# Altium schematic symbol library Resistors.SchLib: 123 symbols (part 1 of 2)
Pins are listed as number, name and electrical type; pins without a type are passive.

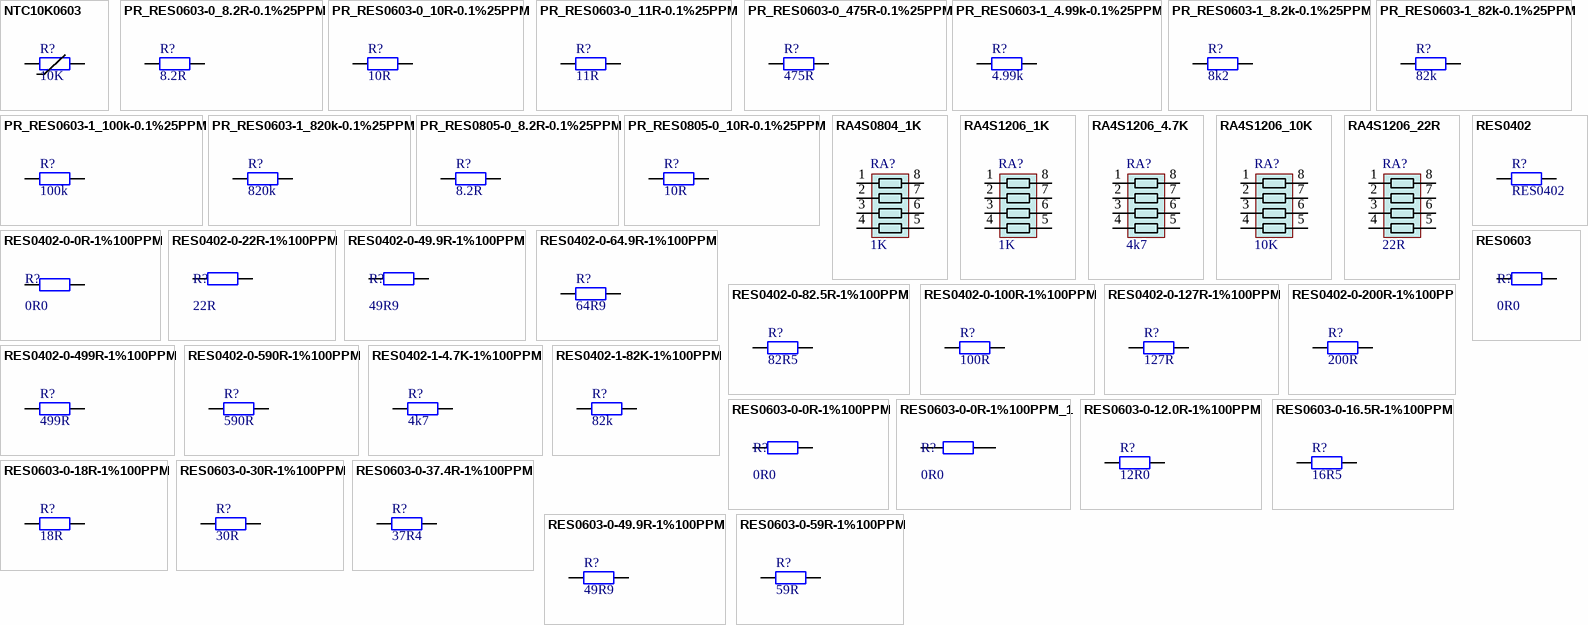
[diagram p0: symbols NTC10K0603 to RES0603-0-59R-1%100PPM]

## NTC10K0603
designator R?, comment 10K
NTC Resistor SMD 0603 0.1W 2% -40..+125degC; Manufacturer: Epcos; Manufacturer No: B57321V2103J60; Tech: SMDR; Package: Res Chip 0603; Supplier 1: Digi-Key; Supplier Part Number 1: 495-2104-1-ND; Supplier 2: Newark; Supplier Part Number 2: 43J3504; Supplier 3: Mouser; Supplier Part Number 3: 871-B57321V2103J60
simulation model RESISTOR (Resistor)
signal-integrity model Res
footprint NTC0603-1 (NTC resistor 0603 0.9mm high)
pins: 1, 2

## PR_RES0603-0_8.2R-0.1%25PPM
designator R?, comment 8.2R
Chip Resistor 0603 100mW 0.1% 25ppm; Manufacturer: TE Connectivity; Manufacturer No: 8-1614882-9; Tech: SMDR; Package: Res Chip 0603; Supplier 1: Mouser; Supplier Part Number 1: 279-CPF0603B8R2E1; Supplier 2: Digi-Key; Supplier Part Number 2: A103135CT-ND
simulation model RESISTOR (Resistor)
signal-integrity model Res
footprint RC0603N1R (Chip resistor 0603 ROUNDED PAD)
footprint RC0603N1X (Chip resistor 0603)
footprint RC0603RF1 (Chip resistor 0603 RF pad)
footprint RC0603RF1R (Chip resistor 0603 RF pad ROUNDED PAD)
pins: 1, 2
1 alternate drawing of the same symbol

## PR_RES0603-0_10R-0.1%25PPM
designator R?, comment 10R
Chip Resistor 0603 100mW 0.1% 25ppm; Manufacturer: Vishay; Manufacturer No: TNPW060310R0BEEA; Tech: SMDR; Package: Res Chip 0603; Supplier 1: Mouser; Supplier Part Number 1: 71-TNPW060310R0BEEA; Supplier 2: Digi-Key; Supplier Part Number 2: TNP10.0AACT-ND
simulation model RESISTOR (Resistor)
signal-integrity model Res
footprint RC0603N1R (Chip resistor 0603 ROUNDED PAD)
footprint RC0603N1X (Chip resistor 0603)
footprint RC0603RF1 (Chip resistor 0603 RF pad)
footprint RC0603RF1R (Chip resistor 0603 RF pad ROUNDED PAD)
pins: 1, 2
1 alternate drawing of the same symbol

## PR_RES0603-0_11R-0.1%25PPM
designator R?, comment 11R
Chip Resistor 0603 100mW 0.1% 25ppm; Manufacturer: TE Connectivity; Manufacturer No: 9-1614882-2; Tech: SMDR; Package: Res Chip 0603; Supplier 1: Mouser; Supplier Part Number 1: 279-CPF0603B11RE1; Supplier 2: Digi-Key; Supplier Part Number 2: A103034CT-ND
simulation model RESISTOR (Resistor)
signal-integrity model Res
footprint RC0603N1R (Chip resistor 0603 ROUNDED PAD)
footprint RC0603N1X (Chip resistor 0603)
footprint RC0603RF1 (Chip resistor 0603 RF pad)
footprint RC0603RF1R (Chip resistor 0603 RF pad ROUNDED PAD)
pins: 1, 2
1 alternate drawing of the same symbol

## PR_RES0603-0_475R-0.1%25PPM
designator R?, comment 475R
Chip Resistor 0603 100mW 0.1% 25ppm; Manufacturer: Panasonic; Manufacturer No: ERA-3AEB4750V; Tech: SMDR; Package: Res Chip 0603; Supplier 1: Mouser; Supplier Part Number 1: 667-ERA-3AEB4750V; Supplier 2: Newark; Supplier Part Number 2: 55W9589; Supplier 3: Digi-Key; Supplier Part Number 3: P475DBCT-ND
simulation model RESISTOR (Resistor)
signal-integrity model Res
footprint RC0603N1R (Chip resistor 0603 ROUNDED PAD)
footprint RC0603N1X (Chip resistor 0603)
footprint RC0603RF1 (Chip resistor 0603 RF pad)
footprint RC0603RF1R (Chip resistor 0603 RF pad ROUNDED PAD)
pins: 1, 2
1 alternate drawing of the same symbol

## PR_RES0603-1_4.99k-0.1%25PPM
designator R?, comment 4.99k
Chip Resistor 0603 100mW 0.1% 25ppm; Manufacturer: Panasonic; Manufacturer No: ERA-3AEB4991V; Tech: SMDR; Package: Res Chip 0603; Supplier 1: Mouser; Supplier Part Number 1: 667-ERA-3AEB4991V; Supplier 2: Newark; Supplier Part Number 2: 87R1526; Supplier 3: Digi-Key; Supplier Part Number 3: P4.99KDBCT-ND
simulation model RESISTOR (Resistor)
signal-integrity model Res
footprint RC0603N1R (Chip resistor 0603 ROUNDED PAD)
footprint RC0603N1X (Chip resistor 0603)
footprint RC0603RF1 (Chip resistor 0603 RF pad)
footprint RC0603RF1R (Chip resistor 0603 RF pad ROUNDED PAD)
pins: 1, 2
1 alternate drawing of the same symbol

## PR_RES0603-1_8.2k-0.1%25PPM
designator R?, comment 8k2
Chip Resistor 0603 100mW 0.1% 25ppm; Manufacturer: Panasonic; Manufacturer No: ERA-3AEB822V; Tech: SMDR; Package: Res Chip 0603; Supplier 1: Mouser; Supplier Part Number 1: 667-ERA-3AEB822V; Supplier 2: Newark; Supplier Part Number 2: 08N2138; Supplier 3: Digi-Key; Supplier Part Number 3: P8.2KDBDKR-ND
simulation model RESISTOR (Resistor)
signal-integrity model Res
footprint RC0603N1R (Chip resistor 0603 ROUNDED PAD)
footprint RC0603N1X (Chip resistor 0603)
footprint RC0603RF1 (Chip resistor 0603 RF pad)
footprint RC0603RF1R (Chip resistor 0603 RF pad ROUNDED PAD)
pins: 1, 2
1 alternate drawing of the same symbol

## PR_RES0603-1_82k-0.1%25PPM
designator R?, comment 82k
Chip Resistor 0603 100mW 0.1% 25ppm; Manufacturer: Panasonic; Manufacturer No: ERA-3AEB823V; Tech: SMDR; Package: Res Chip 0603; Supplier 1: Digi-Key; Supplier Part Number 1: P82KDBCT-ND; Supplier 2: Newark; Supplier Part Number 2: 08N2139; Supplier 3: Mouser; Supplier Part Number 3: 667-ERA-3AEB823V
simulation model RESISTOR (Resistor)
signal-integrity model Res
footprint RC0603N1R (Chip resistor 0603 ROUNDED PAD)
footprint RC0603N1X (Chip resistor 0603)
footprint RC0603RF1 (Chip resistor 0603 RF pad)
footprint RC0603RF1R (Chip resistor 0603 RF pad ROUNDED PAD)
pins: 1, 2
1 alternate drawing of the same symbol

## PR_RES0603-1_100k-0.1%25PPM
designator R?, comment 100k
Chip Resistor 0603 100mW 0.1% 25ppm; Manufacturer: Panasonic; Manufacturer No: ERA-3AEB104V; Tech: SMDR; Package: Res Chip 0603; Supplier 1: Digi-Key; Supplier Part Number 1: P100KDBCT-ND; Supplier 2: Newark; Supplier Part Number 2: 08N2096; Supplier 3: Mouser; Supplier Part Number 3: 667-ERA-3AEB104V
simulation model RESISTOR (Resistor)
signal-integrity model Res
footprint RC0603N1R (Chip resistor 0603 ROUNDED PAD)
footprint RC0603N1X (Chip resistor 0603)
footprint RC0603RF1 (Chip resistor 0603 RF pad)
footprint RC0603RF1R (Chip resistor 0603 RF pad ROUNDED PAD)
pins: 1, 2
1 alternate drawing of the same symbol

## PR_RES0603-1_820k-0.1%25PPM
designator R?, comment 820k
Chip Resistor 0603 100mW 0.1% 25ppm; Manufacturer: TE Connectivity; Manufacturer No: CPF0603B820KE; Tech: SMDR; Package: Res Chip 0603; Supplier 1: Digi-Key; Supplier Part Number 1: A119970CT-ND; Supplier 2: Newark; Supplier Part Number 2: 20R0860; Supplier 3: Mouser; Supplier Part Number 3: 279-CPF0603B820KE1
simulation model RESISTOR (Resistor)
signal-integrity model Res
footprint RC0603N1R (Chip resistor 0603 ROUNDED PAD)
footprint RC0603N1X (Chip resistor 0603)
footprint RC0603RF1 (Chip resistor 0603 RF pad)
footprint RC0603RF1R (Chip resistor 0603 RF pad ROUNDED PAD)
pins: 1, 2
1 alternate drawing of the same symbol

## PR_RES0805-0_8.2R-0.1%25PPM
designator R?, comment 8.2R
Chip Resistor 0805 100mW 0.1% 25ppm; Manufacturer: TE Connectivity; Manufacturer No: 1-1614884-5; Tech: SMDR; Package: Res Chip 0805; Supplier 1: Mouser; Supplier Part Number 1: 279-CPF0805B8R2E1; Supplier 2: Digi-Key; Supplier Part Number 2: A103250CT-ND
simulation model RESISTOR (Resistor)
signal-integrity model Res
footprint RC0805N1R (Chip resistor 0805 ROUNDED PAD)
footprint RC0805N1X (Chip resistor 0805)
pins: 1, 2
1 alternate drawing of the same symbol

## PR_RES0805-0_10R-0.1%25PPM
designator R?, comment 10R
Chip Resistor 0805 100mW 0.1% 25ppm; Manufacturer: TE Connectivity; Manufacturer No: 2-1625868-7; Tech: SMDR; Package: Res Chip 0805; Supplier 1: Digi-Key; Supplier Part Number 1: A110351CT-ND; Supplier 2: Mouser; Supplier Part Number 2: 279-2-1625868-7
simulation model RESISTOR (Resistor)
signal-integrity model Res
footprint RC0805N1R (Chip resistor 0805 ROUNDED PAD)
footprint RC0805N1X (Chip resistor 0805)
pins: 1, 2
1 alternate drawing of the same symbol

## RA4S0804_1K
designator RA?, comment 1K
Resistor array 4 single resistors 0.063W 5%; Manufacturer: Panasonic; Manufacturer No: EXB-28V102JX; Tech: SMDR; Package: Res Array 0804 8pin; Supplier 1: Mouser; Supplier Part Number 1: 667-EXB-28V102JX; Supplier 2: Newark; Supplier Part Number 2: 65T9055; Supplier 3: Digi-Key; Supplier Part Number 3: Y7102CT-ND
signal-integrity model Model Name (Model Description)
footprint RA0805-4 (CRA04S Resistor array 4x Single R; 0805 8 pin R0.5mm)
pins: 1, 2, 3, 4, 5, 6, 7, 8

## RA4S1206_1K
designator RA?, comment 1K
Resistor array 4 single resistors 0.063W 5% 200ppm; Manufacturer: Panasonic; Manufacturer No: EXB-38V102JV; Tech: SMDR; Package: RA1206; Supplier 1: Digi-Key; Supplier Part Number 1: Y9102CT-ND; Supplier 2: Mouser; Supplier Part Number 2: 667-EXB-38V102JV; Supplier 3: Newark; Supplier Part Number 3: 65T9086
signal-integrity model Model Name (Model Description)
footprint RA1206-4 (CRA06P Resistor array 4x Single R; 1206 8 pin R0.8mm)
pins: 1, 2, 3, 4, 5, 6, 7, 8

## RA4S1206_4.7K
designator RA?, comment 4k7
Resistor array 4 single resistors 0.063W 5% 200ppm; Manufacturer: Bourns; Manufacturer No: CAY16-4701F4LF; Tech: SMDR; Package: RA1206; Supplier 1: Newark; Supplier Part Number 1: 61J4778; Supplier 2: Mouser; Supplier Part Number 2: 652-CAY16-4701F4LF; Supplier 3: Digi-Key; Supplier Part Number 3: CAY16-4701F4LFCT-ND
signal-integrity model Model Name (Model Description)
footprint RA1206-4 (CRA06P Resistor array 4x Single R; 1206 8 pin R0.8mm)
pins: 1, 2, 3, 4, 5, 6, 7, 8

## RA4S1206_10K
designator RA?, comment 10K
Resistor array 4 single resistors 0.063W; Manufacturer: Yageo; Manufacturer No: YC164-JR-0710KL; Comment2: 0.063W/R  5% 200ppm; Sort: 112; Tech: SMDR; Package: RA1206; Price: 0; Supplier 1: Digi-Key; Supplier Part Number 1: YC164J-10KCT-ND; Supplier 2: Mouser; Supplier Part Number 2: 603-YC164-JR-0710KL; Supplier 3: Newark; Supplier Part Number 3: 68R0340
signal-integrity model Model Name (Model Description)
footprint RA1206-4 (CRA06P Resistor array 4x Single R; 1206 8 pin R0.8mm)
pins: 1, 2, 3, 4, 5, 6, 7, 8

## RA4S1206_22R
designator RA?, comment 22R
Resistor array 4 single resistors 0.063W; Manufacturer: Bourns; Manufacturer No: CAY16-220J4LF; Comment2: 0.063W/R  5% 200ppm; Sort: 112; Tech: SMDR; Package: RA1206; Price: 0; Supplier 1: Digi-Key; Supplier Part Number 1: CAY16-220J4LFCT-ND; Supplier 2: Newark; Supplier Part Number 2: 41R4423; Supplier 3: Mouser; Supplier Part Number 3: 652-CAY16-220J4LF
signal-integrity model Model Name (Model Description)
footprint RA1206-4 (CRA06P Resistor array 4x Single R; 1206 8 pin R0.8mm)
pins: 1, 2, 3, 4, 5, 6, 7, 8

## RES0402
designator R?
Chip Resistor 0402; Comment2: 0.03W 1% 200ppm; Sort: 110; Tech: SMDR; Package: Res Chip 0402; Price: 0.002
simulation model RESISTOR (Resistor)
signal-integrity model Res
footprint RC0402N1X (Chip capacitor 0402)
footprint RC0402N1R (Chip capacitor 0402 ROUNDED PAD)
footprint RC0402RF1 (Chip resistor 0402 RF pad)
footprint RC0402RF1R (Chip resistor 0402 RF round pad)
pins: 1, 2

## RES0402-0-0R-1%100PPM
designator R?, comment 0R0
Chip Resistor 0402 62.5mW 1% 100ppm; Manufacturer: Panasonic; Manufacturer No: ERJ-2GE0R00X; Tech: SMDR; Package: Res Chip 0402; Supplier 1: Digi-Key; Supplier Part Number 1: P0.0JCT-ND; Supplier 2: Mouser; Supplier Part Number 2: 667-ERJ-2GE0R00X; Supplier 3: Newark; Supplier Part Number 3: 65T8307
simulation model RESISTOR (Resistor)
signal-integrity model Res
footprint RC0402N1R (Chip capacitor 0402 ROUNDED PAD)
footprint RC0402N1X (Chip capacitor 0402)
footprint RC0402RF1 (Chip resistor 0402 RF pad)
footprint RC0402RF1R (Chip resistor 0402 RF round pad)
pins: 1, 2
2 alternate drawings of the same symbol

## RES0402-0-22R-1%100PPM
designator R?, comment 22R
Chip Resistor 0402 62.5mW 1% 100ppm; Manufacturer: Panasonic; Manufacturer No: ERJ-2RKF22R0X; Tech: SMDR; Package: Res Chip 0402; Supplier 1: Mouser; Supplier Part Number 1: 667-ERJ-2RKF22R0X; Supplier 2: Digi-Key; Supplier Part Number 2: P22.0LCT-ND; Supplier 3: Newark; Supplier Part Number 3: 64R5266
simulation model RESISTOR (Resistor)
signal-integrity model Res
footprint RC0402N1R (Chip capacitor 0402 ROUNDED PAD)
footprint RC0402N1X (Chip capacitor 0402)
footprint RC0402RF1 (Chip resistor 0402 RF pad)
footprint RC0402RF1R (Chip resistor 0402 RF round pad)
pins: 1, 2
1 alternate drawing of the same symbol

## RES0402-0-49.9R-1%100PPM
designator R?, comment 49R9
Chip Resistor 0402 62.5mW 1% 100ppm; Manufacturer: Panasonic; Manufacturer No: ERJ-2RKF49R9X; Tech: SMDR; Package: Res Chip 0402; Supplier 1: Newark; Supplier Part Number 1: 73T6527; Supplier 2: Digi-Key; Supplier Part Number 2: P49.9LCT-ND; Supplier 3: Mouser; Supplier Part Number 3: 667-ERJ-2RKF49R9X
simulation model RESISTOR (Resistor)
signal-integrity model Res
footprint RC0402N1R (Chip capacitor 0402 ROUNDED PAD)
footprint RC0402N1X (Chip capacitor 0402)
footprint RC0402RF1 (Chip resistor 0402 RF pad)
footprint RC0402RF1R (Chip resistor 0402 RF round pad)
pins: 1, 2
1 alternate drawing of the same symbol

## RES0402-0-64.9R-1%100PPM
designator R?, comment 64R9
Chip Resistor 0402 62.5mW 1% 100ppm; Manufacturer: Panasonic; Manufacturer No: ERJ-2RKF64R9X; Comment2: 0.0625W 1% 100 ppm; Tech: SMDR; Package: Res Chip 0402; Supplier 1: Digi-Key; Supplier Part Number 1: P64.9LCT-ND; Supplier 2: Mouser; Supplier Part Number 2: 667-ERJ-2RKF64R9X; Supplier 3: Newark; Supplier Part Number 3: 53W4438
simulation model RESISTOR (Resistor)
signal-integrity model Res
footprint RC0402N1R (Chip capacitor 0402 ROUNDED PAD)
footprint RC0402N1X (Chip capacitor 0402)
footprint RC0402RF1 (Chip resistor 0402 RF pad)
footprint RC0402RF1R (Chip resistor 0402 RF round pad)
pins: 1, 2
1 alternate drawing of the same symbol

## RES0402-0-82.5R-1%100PPM
designator R?, comment 82R5
Chip Resistor 0402 62.5mW 1% 100ppm; Manufacturer: Panasonic; Manufacturer No: ERJ-2RKF82R5X; Tech: SMDR; Package: Res Chip 0402; Supplier 1: Mouser; Supplier Part Number 1: 667-ERJ-2RKF82R5X; Supplier 2: Newark; Supplier Part Number 2: 53W4473; Supplier 3: Digi-Key; Supplier Part Number 3: P82.5LCT-ND
simulation model RESISTOR (Resistor)
signal-integrity model Res
footprint RC0402N1R (Chip capacitor 0402 ROUNDED PAD)
footprint RC0402N1X (Chip capacitor 0402)
footprint RC0402RF1 (Chip resistor 0402 RF pad)
footprint RC0402RF1R (Chip resistor 0402 RF round pad)
pins: 1, 2
1 alternate drawing of the same symbol

## RES0402-0-100R-1%100PPM
designator R?, comment 100R
Chip Resistor 0402 62.5mW 1% 100ppm; Manufacturer: Panasonic; Manufacturer No: ERJ-2RKF1000X; Tech: SMDR; Package: Res Chip 0402; Supplier 1: Mouser; Supplier Part Number 1: 667-ERJ-2RKF1000X; Supplier 2: Newark; Supplier Part Number 2: 64R5246; Supplier 3: Digi-Key; Supplier Part Number 3: P100LCT-ND
simulation model RESISTOR (Resistor)
signal-integrity model Res
footprint RC0402N1R (Chip capacitor 0402 ROUNDED PAD)
footprint RC0402N1X (Chip capacitor 0402)
footprint RC0402RF1 (Chip resistor 0402 RF pad)
footprint RC0402RF1R (Chip resistor 0402 RF round pad)
pins: 1, 2
1 alternate drawing of the same symbol

## RES0402-0-127R-1%100PPM
designator R?, comment 127R
Chip Resistor 0402 62.5mW 1% 100ppm; Manufacturer: Panasonic; Manufacturer No: ERJ-2RKF1270X; Tech: SMDR; Package: Res Chip 0402; Supplier 1: Mouser; Supplier Part Number 1: 667-ERJ-2RKF1270X; Supplier 2: Newark; Supplier Part Number 2: 53W4203; Supplier 3: Digi-Key; Supplier Part Number 3: P127LCT-ND
simulation model RESISTOR (Resistor)
signal-integrity model Res
footprint RC0402N1R (Chip capacitor 0402 ROUNDED PAD)
footprint RC0402N1X (Chip capacitor 0402)
footprint RC0402RF1 (Chip resistor 0402 RF pad)
footprint RC0402RF1R (Chip resistor 0402 RF round pad)
pins: 1, 2
1 alternate drawing of the same symbol

## RES0402-0-200R-1%100PP
designator R?, comment 200R
Chip Resistor 0402 62.5mW 1% 100ppm; Manufacturer: Panasonic; Manufacturer No: ERJ-2RKF2000X; Tech: SMDR; Package: Res Chip 0402; Supplier 1: Mouser; Supplier Part Number 1: 667-ERJ-2RKF2000X; Supplier 2: Newark; Supplier Part Number 2: 73T6485; Supplier 3: Digi-Key; Supplier Part Number 3: P200LDKR-ND
simulation model RESISTOR (Resistor)
signal-integrity model Res
footprint RC0402N1R (Chip capacitor 0402 ROUNDED PAD)
footprint RC0402N1X (Chip capacitor 0402)
footprint RC0402RF1 (Chip resistor 0402 RF pad)
footprint RC0402RF1R (Chip resistor 0402 RF round pad)
pins: 1, 2
1 alternate drawing of the same symbol

## RES0402-0-499R-1%100PPM
designator R?, comment 499R
Chip Resistor 0402 62.5mW 1% 100ppm; Manufacturer: Panasonic; Manufacturer No: ERJ-2RKF4990X; Tech: SMDR; Package: Res Chip 0402; Supplier 1: Digi-Key; Supplier Part Number 1: P499LDKR-ND; Supplier 2: Newark; Supplier Part Number 2: 73T6528; Supplier 3: Mouser; Supplier Part Number 3: 667-ERJ-2RKF4990X
simulation model RESISTOR (Resistor)
signal-integrity model Res
footprint RC0402N1R (Chip capacitor 0402 ROUNDED PAD)
footprint RC0402N1X (Chip capacitor 0402)
footprint RC0402RF1 (Chip resistor 0402 RF pad)
footprint RC0402RF1R (Chip resistor 0402 RF round pad)
pins: 1, 2
1 alternate drawing of the same symbol

## RES0402-0-590R-1%100PPM
designator R?, comment 590R
Chip Resistor 0402 62.5mW 1% 100ppm; Manufacturer: Panasonic; Manufacturer No: ERJ-2RKF5900X; Tech: SMDR; Package: Res Chip 0402; Supplier 1: Digi-Key; Supplier Part Number 1: P590LCT-ND; Supplier 2: Newark; Supplier Part Number 2: 53W4421; Supplier 3: Mouser; Supplier Part Number 3: 667-ERJ-2RKF5900X
simulation model RESISTOR (Resistor)
signal-integrity model Res
footprint RC0402N1R (Chip capacitor 0402 ROUNDED PAD)
footprint RC0402N1X (Chip capacitor 0402)
footprint RC0402RF1 (Chip resistor 0402 RF pad)
footprint RC0402RF1R (Chip resistor 0402 RF round pad)
pins: 1, 2
1 alternate drawing of the same symbol

## RES0402-1-4.7K-1%100PPM
designator R?, comment 4k7
Chip Resistor 0402 62.5mW 1% 100ppm; Manufacturer: Panasonic; Manufacturer No: ERJ-2RKF4701X; Tech: SMDR; Package: Res Chip 0402; Supplier: Digi-Key; Supplier No: P4.70KLCT-ND; Supplier 1: Newark; Supplier Part Number 1: 64R5288; Supplier 2: Mouser; Supplier Part Number 2: 667-ERJ-2RKF4701X; Supplier 3: Digi-Key; Supplier Part Number 3: P4.70KLCT-ND
simulation model RESISTOR (Resistor)
signal-integrity model Res
footprint RC0402N1R (Chip capacitor 0402 ROUNDED PAD)
footprint RC0402N1X (Chip capacitor 0402)
footprint RC0402RF1 (Chip resistor 0402 RF pad)
footprint RC0402RF1R (Chip resistor 0402 RF round pad)
pins: 1, 2
1 alternate drawing of the same symbol

## RES0402-1-82K-1%100PPM
designator R?, comment 82k
Chip Resistor 0402 62.5mW 1% 100ppm; Manufacturer: Panasonic; Manufacturer No: ERJ-2RKF8202X; Tech: SMDR; Package: Res Chip 0402; Supplier 1: Newark; Supplier Part Number 1: 53W8367; Supplier 2: Digi-Key; Supplier Part Number 2: P82.0KLCT-ND; Supplier 3: Mouser; Supplier Part Number 3: 667-ERJ-2RKF8202X
simulation model RESISTOR (Resistor)
signal-integrity model Res
footprint RC0402N1R (Chip capacitor 0402 ROUNDED PAD)
footprint RC0402N1X (Chip capacitor 0402)
footprint RC0402RF1 (Chip resistor 0402 RF pad)
footprint RC0402RF1R (Chip resistor 0402 RF round pad)
pins: 1, 2
1 alternate drawing of the same symbol

## RES0603
designator R?, comment 0R0
Chip Resistor 0603; Comment2: 0.063W 1% 200ppm; Sort: 110; Tech: SMDR; Package: Res Chip 0603; Price: 0.002
simulation model RESISTOR (Resistor)
signal-integrity model Res
footprint RC0603N1R (Chip resistor 0603 ROUNDED PAD)
footprint RC0603N1X (Chip resistor 0603)
footprint RC0603RF1 (Chip resistor 0603 RF pad)
footprint RC0603RF1R (Chip resistor 0603 RF pad ROUNDED PAD)
pins: 1, 2

## RES0603-0-0R-1%100PPM
designator R?, comment 0R0
Chip Resistor 0603 100mW 1% 100ppm; Manufacturer: Panasonic; Manufacturer No: ERJ-3GEY0R00V; Tech: SMDR; Package: Res Chip 0603; Supplier 1: Digi-Key; Supplier Part Number 1: P0.0GCT-ND; Supplier 2: Newark; Supplier Part Number 2: 65T8702; Supplier 3: Mouser; Supplier Part Number 3: 667-ERJ-3GEY0R00V
simulation model RESISTOR (Resistor)
signal-integrity model Res
footprint RC0603N1R (Chip resistor 0603 ROUNDED PAD)
footprint RC0603N1X (Chip resistor 0603)
footprint RC0603RF1 (Chip resistor 0603 RF pad)
footprint RC0603RF1R (Chip resistor 0603 RF pad ROUNDED PAD)
pins: 1, 2
2 alternate drawings of the same symbol

## RES0603-0-0R-1%100PPM_1
designator R?, comment 0R0
Chip Resistor 0603 100mW 1% 100ppm; Manufacturer: Panasonic; Manufacturer No: ERJ-3GEY0R00V; Tech: SMDR; Package: Res Chip 0603; Supplier 1: Digi-Key; Supplier Part Number 1: P0.0GCT-ND; Supplier 2: Newark; Supplier Part Number 2: 65T8702; Supplier 3: Mouser; Supplier Part Number 3: 667-ERJ-3GEY0R00V
simulation model RESISTOR (Resistor)
signal-integrity model Res
footprint RC0603N1R (Chip resistor 0603 ROUNDED PAD)
footprint RC0603N1X (Chip resistor 0603)
footprint RC0603RF1 (Chip resistor 0603 RF pad)
footprint RC0603RF1R (Chip resistor 0603 RF pad ROUNDED PAD)
pins: 1, 2
2 alternate drawings of the same symbol

## RES0603-0-12.0R-1%100PPM
designator R?, comment 12R0
Chip Resistor 0603 100mW 1% 100ppm; Manufacturer: Yageo; Manufacturer No: RC0603FR-0712RL; Tech: SMDR; Package: Res Chip 0603; Supplier 1: Mouser; Supplier Part Number 1: 603-RC0603FR-0712RL; Supplier 2: Digi-Key; Supplier Part Number 2: 311-12.0HRCT-ND
simulation model RESISTOR (Resistor)
signal-integrity model Res
footprint RC0603N1R (Chip resistor 0603 ROUNDED PAD)
footprint RC0603N1X (Chip resistor 0603)
footprint RC0603RF1 (Chip resistor 0603 RF pad)
footprint RC0603RF1R (Chip resistor 0603 RF pad ROUNDED PAD)
pins: 1, 2
1 alternate drawing of the same symbol

## RES0603-0-16.5R-1%100PPM
designator R?, comment 16R5
Chip Resistor 0603 100mW 1% 100ppm; Manufacturer: Panasonic; Manufacturer No: ERJ-3EKF16R5V; Tech: SMDR; Package: Res Chip 0603; Supplier 1: Mouser; Supplier Part Number 1: 667-ERJ-3EKF16R5V; Supplier 2: Newark; Supplier Part Number 2: 90W3137; Supplier 3: Digi-Key; Supplier Part Number 3: P16.5HCT-ND
simulation model RESISTOR (Resistor)
signal-integrity model Res
footprint RC0603N1R (Chip resistor 0603 ROUNDED PAD)
footprint RC0603N1X (Chip resistor 0603)
footprint RC0603RF1 (Chip resistor 0603 RF pad)
footprint RC0603RF1R (Chip resistor 0603 RF pad ROUNDED PAD)
pins: 1, 2
1 alternate drawing of the same symbol

## RES0603-0-18R-1%100PPM
designator R?, comment 18R
Chip Resistor 0603 100mW 1% 100ppm; Manufacturer: Panasonic; Manufacturer No: ERJ-3EKF18R0V; Tech: SMDR; Package: Res Chip 0603; Supplier 1: Newark; Supplier Part Number 1: 64R5322; Supplier 2: Mouser; Supplier Part Number 2: 667-ERJ-3EKF18R0V; Supplier 3: Digi-Key; Supplier Part Number 3: P18.0HCT-ND
simulation model RESISTOR (Resistor)
signal-integrity model Res
footprint RC0603N1R (Chip resistor 0603 ROUNDED PAD)
footprint RC0603N1X (Chip resistor 0603)
footprint RC0603RF1 (Chip resistor 0603 RF pad)
footprint RC0603RF1R (Chip resistor 0603 RF pad ROUNDED PAD)
pins: 1, 2
1 alternate drawing of the same symbol

## RES0603-0-30R-1%100PPM
designator R?, comment 30R
Chip Resistor 0603 100mW 1% 100ppm; Manufacturer: Panasonic; Manufacturer No: ERJ-3EKF30R0V; Tech: SMDR; Package: Res Chip 0603; Supplier 1: Mouser; Supplier Part Number 1: 667-ERJ-3EKF30R0V; Supplier 2: Newark; Supplier Part Number 2: 53W4589; Supplier 3: Digi-Key; Supplier Part Number 3: P30.0HCT-ND
simulation model RESISTOR (Resistor)
signal-integrity model Res
footprint RC0603N1R (Chip resistor 0603 ROUNDED PAD)
footprint RC0603N1X (Chip resistor 0603)
footprint RC0603RF1 (Chip resistor 0603 RF pad)
footprint RC0603RF1R (Chip resistor 0603 RF pad ROUNDED PAD)
pins: 1, 2
1 alternate drawing of the same symbol

## RES0603-0-37.4R-1%100PPM
designator R?, comment 37R4
Chip Resistor 0603 100mW 1% 100ppm; Manufacturer: Yageo; Manufacturer No: RC0603FR-0737R4L; Tech: SMDR; Package: Res Chip 0603; Supplier 1: Mouser; Supplier Part Number 1: 603-RC0603FR-0737R4L; Supplier 2: Digi-Key; Supplier Part Number 2: 311-37.4HRCT-ND
simulation model RESISTOR (Resistor)
signal-integrity model Res
footprint RC0603N1R (Chip resistor 0603 ROUNDED PAD)
footprint RC0603N1X (Chip resistor 0603)
footprint RC0603RF1 (Chip resistor 0603 RF pad)
footprint RC0603RF1R (Chip resistor 0603 RF pad ROUNDED PAD)
pins: 1, 2
1 alternate drawing of the same symbol

## RES0603-0-49.9R-1%100PPM
designator R?, comment 49R9
Chip Resistor 0603 100mW 1% 100ppm; Manufacturer: Panasonic; Manufacturer No: ERJ-3EKF49R9V; Tech: SMDR; Package: Res Chip 0603; Supplier 1: Digi-Key; Supplier Part Number 1: P49.9HDKR-ND; Supplier 2: Mouser; Supplier Part Number 2: 667-ERJ-3EKF49R9V; Supplier 3: Newark; Supplier Part Number 3: 65T8468
simulation model RESISTOR (Resistor)
signal-integrity model Res
footprint RC0603N1R (Chip resistor 0603 ROUNDED PAD)
footprint RC0603N1X (Chip resistor 0603)
footprint RC0603RF1 (Chip resistor 0603 RF pad)
footprint RC0603RF1R (Chip resistor 0603 RF pad ROUNDED PAD)
pins: 1, 2
1 alternate drawing of the same symbol

## RES0603-0-59R-1%100PPM
designator R?, comment 59R
Chip Resistor 0603 100mW 1% 100ppm; Manufacturer: Panasonic; Manufacturer No: ERJ-3EKF59R0V; Tech: SMDR; Package: Res Chip 0603; Supplier 1: Digi-Key; Supplier Part Number 1: P59.0HCT-ND; Supplier 2: Newark; Supplier Part Number 2: 53W4650; Supplier 3: Mouser; Supplier Part Number 3: 667-ERJ-3EKF59R0V
simulation model RESISTOR (Resistor)
signal-integrity model Res
footprint RC0603N1R (Chip resistor 0603 ROUNDED PAD)
footprint RC0603N1X (Chip resistor 0603)
footprint RC0603RF1 (Chip resistor 0603 RF pad)
footprint RC0603RF1R (Chip resistor 0603 RF pad ROUNDED PAD)
pins: 1, 2
1 alternate drawing of the same symbol

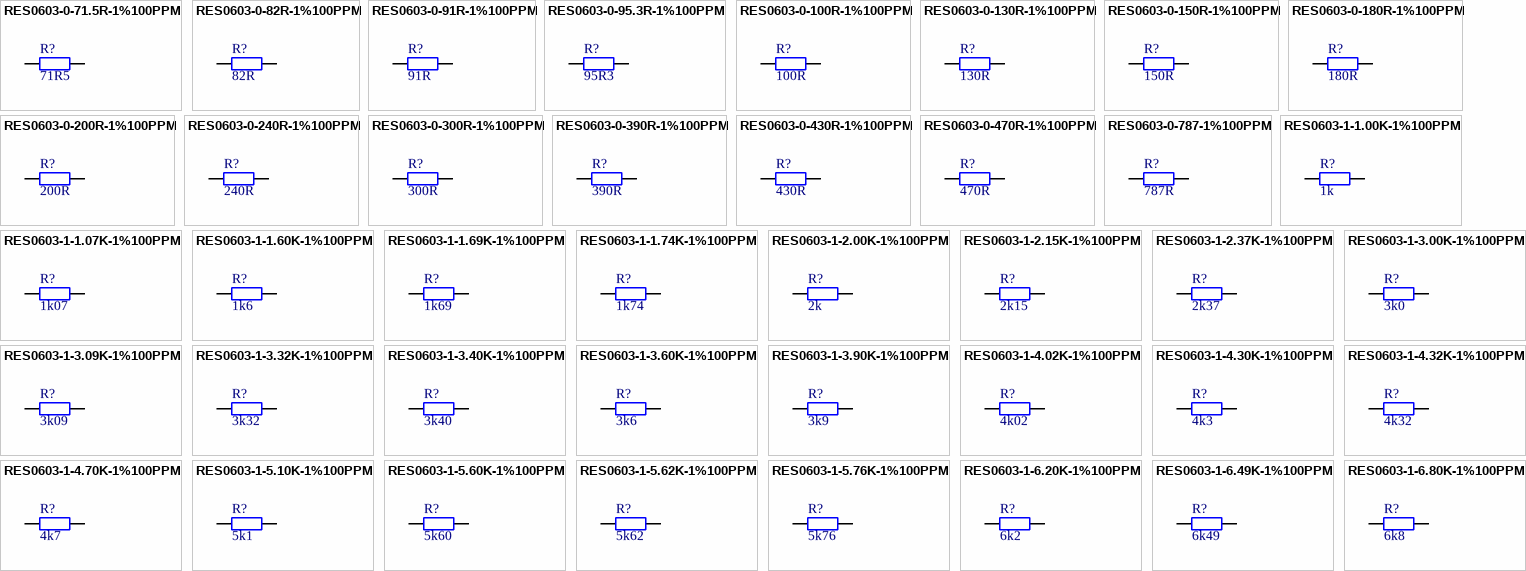
[diagram p1: symbols RES0603-0-71.5R-1%100PPM to RES0603-1-6.80K-1%100PPM]

## RES0603-0-71.5R-1%100PPM
designator R?, comment 71R5
Chip Resistor 0603 100mW 1% 100ppm; Manufacturer: Panasonic; Manufacturer No: P71.5HCT-ND; Tech: SMDR; Package: Res Chip 0603; Supplier 1: Mouser; Supplier Part Number 1: 667-ERJ-3EKF71R5V; Supplier 2: Newark; Supplier Part Number 2: 53W4673; Supplier 3: Digi-Key; Supplier Part Number 3: P71.5HCT-ND
simulation model RESISTOR (Resistor)
signal-integrity model Res
footprint RC0603N1R (Chip resistor 0603 ROUNDED PAD)
footprint RC0603N1X (Chip resistor 0603)
footprint RC0603RF1 (Chip resistor 0603 RF pad)
footprint RC0603RF1R (Chip resistor 0603 RF pad ROUNDED PAD)
pins: 1, 2
1 alternate drawing of the same symbol

## RES0603-0-82R-1%100PPM
designator R?, comment 82R
Chip Resistor 0603 100mW 1% 100ppm; Manufacturer: Panasonic; Manufacturer No: ERJ-3EKF82R0V; Tech: SMDR; Package: Res Chip 0603; Supplier 1: Mouser; Supplier Part Number 1: 667-ERJ-3EKF82R0V; Supplier 2: Newark; Supplier Part Number 2: 54W2572; Supplier 3: Digi-Key; Supplier Part Number 3: P82.0HCT-ND
simulation model RESISTOR (Resistor)
signal-integrity model Res
footprint RC0603N1R (Chip resistor 0603 ROUNDED PAD)
footprint RC0603N1X (Chip resistor 0603)
footprint RC0603RF1 (Chip resistor 0603 RF pad)
footprint RC0603RF1R (Chip resistor 0603 RF pad ROUNDED PAD)
pins: 1, 2
1 alternate drawing of the same symbol

## RES0603-0-91R-1%100PPM
designator R?, comment 91R
Chip Resistor 0603 100mW 1% 100ppm; Manufacturer: Panasonic; Manufacturer No: ERJ-3EKF91R0V; Tech: SMDR; Package: Res Chip 0603; Supplier 1: Newark; Supplier Part Number 1: 90W3231; Supplier 2: Mouser; Supplier Part Number 2: 667-ERJ-3EKF91R0V; Supplier 3: Digi-Key; Supplier Part Number 3: P91.0HCT-ND
simulation model RESISTOR (Resistor)
signal-integrity model Res
footprint RC0603N1R (Chip resistor 0603 ROUNDED PAD)
footprint RC0603N1X (Chip resistor 0603)
footprint RC0603RF1 (Chip resistor 0603 RF pad)
footprint RC0603RF1R (Chip resistor 0603 RF pad ROUNDED PAD)
pins: 1, 2
1 alternate drawing of the same symbol

## RES0603-0-95.3R-1%100PPM
designator R?, comment 95R3
Chip Resistor 0603 100mW 1% 100ppm; Manufacturer: Panasonic; Manufacturer No: P95.3HCT-ND; Tech: SMDR; Package: Res Chip 0603; Supplier 1: Newark; Supplier Part Number 1: 53W4695; Supplier 2: Mouser; Supplier Part Number 2: 667-ERJ-3EKF95R3V; Supplier 3: Digi-Key; Supplier Part Number 3: P95.3HCT-ND
simulation model RESISTOR (Resistor)
signal-integrity model Res
footprint RC0603N1R (Chip resistor 0603 ROUNDED PAD)
footprint RC0603N1X (Chip resistor 0603)
footprint RC0603RF1 (Chip resistor 0603 RF pad)
footprint RC0603RF1R (Chip resistor 0603 RF pad ROUNDED PAD)
pins: 1, 2
1 alternate drawing of the same symbol

## RES0603-0-100R-1%100PPM
designator R?, comment 100R
Chip Resistor 0603 100mW 1% 100ppm; Manufacturer: Panasonic; Manufacturer No: ERJ-3EKF1000V; Tech: SMDR; Package: Res Chip 0603; Supplier 1: Mouser; Supplier Part Number 1: 667-ERJ-3EKF1000V; Supplier 2: Digi-Key; Supplier Part Number 2: P100HDKR-ND; Supplier 3: Newark; Supplier Part Number 3: 64R5307
simulation model RESISTOR (Resistor)
signal-integrity model Res
footprint RC0603N1R (Chip resistor 0603 ROUNDED PAD)
footprint RC0603N1X (Chip resistor 0603)
footprint RC0603RF1 (Chip resistor 0603 RF pad)
footprint RC0603RF1R (Chip resistor 0603 RF pad ROUNDED PAD)
pins: 1, 2
1 alternate drawing of the same symbol

## RES0603-0-130R-1%100PPM
designator R?, comment 130R
Chip Resistor 0603 100mW 1% 100ppm; Manufacturer: Panasonic; Manufacturer No: ERJ-3EKF1300V; Tech: SMDR; Package: Res Chip 0603; Supplier 1: Mouser; Supplier Part Number 1: 667-ERJ-3EKF1300V; Supplier 2: Digi-Key; Supplier Part Number 2: P130HCT-ND; Supplier 3: Newark; Supplier Part Number 3: 65T8330
simulation model RESISTOR (Resistor)
signal-integrity model Res
footprint RC0603N1R (Chip resistor 0603 ROUNDED PAD)
footprint RC0603N1X (Chip resistor 0603)
footprint RC0603RF1 (Chip resistor 0603 RF pad)
footprint RC0603RF1R (Chip resistor 0603 RF pad ROUNDED PAD)
pins: 1, 2
1 alternate drawing of the same symbol

## RES0603-0-150R-1%100PPM
designator R?, comment 150R
Chip Resistor 0603 100mW 1% 100ppm; Manufacturer: Yageo; Manufacturer No: RC0603FR-07150RL; Tech: SMDR; Package: Res Chip 0603; Supplier 1: Mouser; Supplier Part Number 1: 603-RC0603FR-07150RL; Supplier 2: Digi-Key; Supplier Part Number 2: 311-150HRCT-ND
simulation model RESISTOR (Resistor)
signal-integrity model Res
footprint RC0603N1R (Chip resistor 0603 ROUNDED PAD)
footprint RC0603N1X (Chip resistor 0603)
footprint RC0603RF1 (Chip resistor 0603 RF pad)
footprint RC0603RF1R (Chip resistor 0603 RF pad ROUNDED PAD)
pins: 1, 2
1 alternate drawing of the same symbol

## RES0603-0-180R-1%100PPM
designator R?, comment 180R
Chip Resistor 0603 100mW 1% 100ppm; Manufacturer: Panasonic; Manufacturer No: ERJ-3EKF1800V; Tech: SMDR; Package: Res Chip 0603; Supplier 1: Newark; Supplier Part Number 1: 64R5323; Supplier 2: Mouser; Supplier Part Number 2: 667-ERJ-3EKF1800V; Supplier 3: Digi-Key; Supplier Part Number 3: P180HCT-ND
simulation model RESISTOR (Resistor)
signal-integrity model Res
footprint RC0603N1R (Chip resistor 0603 ROUNDED PAD)
footprint RC0603N1X (Chip resistor 0603)
footprint RC0603RF1 (Chip resistor 0603 RF pad)
footprint RC0603RF1R (Chip resistor 0603 RF pad ROUNDED PAD)
pins: 1, 2
1 alternate drawing of the same symbol

## RES0603-0-200R-1%100PPM
designator R?, comment 200R
Chip Resistor 0603 100mW 1% 100ppm; Manufacturer: Panasonic; Manufacturer No: ERJ-3EKF2000V; Tech: SMDR; Package: Res Chip 0603; Supplier 1: Newark; Supplier Part Number 1: 65T8365; Supplier 2: Digi-Key; Supplier Part Number 2: P200HCT-ND; Supplier 3: Mouser; Supplier Part Number 3: 667-ERJ-3EKF2000V
simulation model RESISTOR (Resistor)
signal-integrity model Res
footprint RC0603N1R (Chip resistor 0603 ROUNDED PAD)
footprint RC0603N1X (Chip resistor 0603)
footprint RC0603RF1 (Chip resistor 0603 RF pad)
footprint RC0603RF1R (Chip resistor 0603 RF pad ROUNDED PAD)
pins: 1, 2
1 alternate drawing of the same symbol

## RES0603-0-240R-1%100PPM
designator R?, comment 240R
Chip Resistor 0603 100mW 1% 100ppm; Manufacturer: Panasonic; Manufacturer No: ERJ-3EKF2400V; Tech: SMDR; Package: Res Chip 0603; Supplier 1: Newark; Supplier Part Number 1: 65T8389; Supplier 2: Digi-Key; Supplier Part Number 2: P240HDKR-ND; Supplier 3: Mouser; Supplier Part Number 3: 667-ERJ-3EKF2400V
simulation model RESISTOR (Resistor)
signal-integrity model Res
footprint RC0603N1R (Chip resistor 0603 ROUNDED PAD)
footprint RC0603N1X (Chip resistor 0603)
footprint RC0603RF1 (Chip resistor 0603 RF pad)
footprint RC0603RF1R (Chip resistor 0603 RF pad ROUNDED PAD)
pins: 1, 2
1 alternate drawing of the same symbol

## RES0603-0-300R-1%100PPM
designator R?, comment 300R
Chip Resistor 0603 100mW 1% 100ppm; Manufacturer: Panasonic; Manufacturer No: ERJ-3EKF3000V; Tech: SMDR; Package: Res Chip 0603; Supplier 1: Mouser; Supplier Part Number 1: 667-ERJ-3EKF3000V; Supplier 2: Newark; Supplier Part Number 2: 65T8414; Supplier 3: Digi-Key; Supplier Part Number 3: P300HCT-ND
simulation model RESISTOR (Resistor)
signal-integrity model Res
footprint RC0603N1R (Chip resistor 0603 ROUNDED PAD)
footprint RC0603N1X (Chip resistor 0603)
footprint RC0603RF1 (Chip resistor 0603 RF pad)
footprint RC0603RF1R (Chip resistor 0603 RF pad ROUNDED PAD)
pins: 1, 2
1 alternate drawing of the same symbol

## RES0603-0-390R-1%100PPM
designator R?, comment 390R
Chip Resistor 0603 100mW 1% 100ppm; Manufacturer: Panasonic; Manufacturer No: ERJ-3EKF3900V; Tech: SMDR; Package: Res Chip 0603; Supplier 1: Mouser; Supplier Part Number 1: 667-ERJ-3EKF3900V; Supplier 2: Newark; Supplier Part Number 2: 64R5343; Supplier 3: Digi-Key; Supplier Part Number 3: P390HCT-ND
simulation model RESISTOR (Resistor)
signal-integrity model Res
footprint RC0603N1R (Chip resistor 0603 ROUNDED PAD)
footprint RC0603N1X (Chip resistor 0603)
footprint RC0603RF1 (Chip resistor 0603 RF pad)
footprint RC0603RF1R (Chip resistor 0603 RF pad ROUNDED PAD)
pins: 1, 2
1 alternate drawing of the same symbol

## RES0603-0-430R-1%100PPM
designator R?, comment 430R
Chip Resistor 0603 100mW 1% 100ppm; Manufacturer: Panasonic; Manufacturer No: ERJ-3EKF4300V; Tech: SMDR; Package: Res Chip 0603; Supplier 1: Newark; Supplier Part Number 1: 53W4625; Supplier 2: Mouser; Supplier Part Number 2: 667-ERJ-3EKF4300V; Supplier 3: Digi-Key; Supplier Part Number 3: P430HDKR-ND
simulation model RESISTOR (Resistor)
signal-integrity model Res
footprint RC0603N1R (Chip resistor 0603 ROUNDED PAD)
footprint RC0603N1X (Chip resistor 0603)
footprint RC0603RF1 (Chip resistor 0603 RF pad)
footprint RC0603RF1R (Chip resistor 0603 RF pad ROUNDED PAD)
pins: 1, 2
1 alternate drawing of the same symbol

## RES0603-0-470R-1%100PPM
designator R?, comment 470R
Chip Resistor 0603 100mW 1% 100ppm; Manufacturer: Panasonic; Manufacturer No: ERJ-3EKF4700V; Tech: SMDR; Package: Res Chip 0603; Supplier 1: Digi-Key; Supplier Part Number 1: P470HDKR-ND; Supplier 2: Mouser; Supplier Part Number 2: 667-ERJ-3EKF4700V; Supplier 3: Newark; Supplier Part Number 3: 64R5348
simulation model RESISTOR (Resistor)
signal-integrity model Res
footprint RC0603N1R (Chip resistor 0603 ROUNDED PAD)
footprint RC0603N1X (Chip resistor 0603)
footprint RC0603RF1 (Chip resistor 0603 RF pad)
footprint RC0603RF1R (Chip resistor 0603 RF pad ROUNDED PAD)
pins: 1, 2
1 alternate drawing of the same symbol

## RES0603-0-787-1%100PPM
designator R?, comment 787R
Chip Resistor 0603 100mW 1% 100ppm; Manufacturer: Panasonic; Manufacturer No: ERJ-3EKF7870V; Tech: SMDR; Package: Res Chip 0603; Supplier 1: Digi-Key; Supplier Part Number 1: P787HCT-ND; Supplier 2: Newark; Supplier Part Number 2: 53W4679; Supplier 3: Mouser; Supplier Part Number 3: 667-ERJ-3EKF7870V
simulation model RESISTOR (Resistor)
signal-integrity model Res
footprint RC0603N1R (Chip resistor 0603 ROUNDED PAD)
footprint RC0603N1X (Chip resistor 0603)
footprint RC0603RF1 (Chip resistor 0603 RF pad)
footprint RC0603RF1R (Chip resistor 0603 RF pad ROUNDED PAD)
pins: 1, 2
1 alternate drawing of the same symbol

## RES0603-1-1.00K-1%100PPM
designator R?, comment 1k
Chip Resistor 0603 100mW 1% 100ppm; Manufacturer: Yageo; Manufacturer No: RC0603FR-071KL; Tech: SMDR; Package: Res Chip 0603; Supplier 1: Mouser; Supplier 2: Newark; Supplier 3: Digi-Key; Supplier Part Number 1: 603-RC0603FR-071KL; Supplier Part Number 2: 68R0042; Supplier Part Number 3: 311-1.00KHRCT-ND
simulation model RESISTOR (Resistor)
signal-integrity model Res
footprint RC0603N1R (Chip resistor 0603 ROUNDED PAD)
footprint RC0603N1X (Chip resistor 0603)
footprint RC0603RF1 (Chip resistor 0603 RF pad)
footprint RC0603RF1R (Chip resistor 0603 RF pad ROUNDED PAD)
pins: 1, 2
1 alternate drawing of the same symbol

## RES0603-1-1.07K-1%100PPM
designator R?, comment 1k07
Chip Resistor 0603 100mW 1% 100ppm; Manufacturer: Panasonic; Manufacturer No: ERJ-3EKF1071V; Tech: SMDR; Package: Res Chip 0603; Supplier 1: Newark; Supplier Part Number 1: 53W4509; Supplier 2: Digi-Key; Supplier Part Number 2: P1.07KHCT-ND; Supplier 3: Mouser; Supplier Part Number 3: 667-ERJ-3EKF1071V
simulation model RESISTOR (Resistor)
signal-integrity model Res
footprint RC0603N1R (Chip resistor 0603 ROUNDED PAD)
footprint RC0603N1X (Chip resistor 0603)
footprint RC0603RF1 (Chip resistor 0603 RF pad)
footprint RC0603RF1R (Chip resistor 0603 RF pad ROUNDED PAD)
pins: 1, 2
1 alternate drawing of the same symbol

## RES0603-1-1.60K-1%100PPM
designator R?, comment 1k6
Chip Resistor 0603 100mW 1% 100ppm; Manufacturer: Panasonic; Manufacturer No: ERJ-3EKF1601V; Tech: SMDR; Package: Res Chip 0603; Supplier 1: Mouser; Supplier Part Number 1: 667-ERJ-3EKF1601V; Supplier 2: Newark; Supplier Part Number 2: 53W4541; Supplier 3: Digi-Key; Supplier Part Number 3: P1.60KHCT-ND
simulation model RESISTOR (Resistor)
signal-integrity model Res
footprint RC0603N1R (Chip resistor 0603 ROUNDED PAD)
footprint RC0603N1X (Chip resistor 0603)
footprint RC0603RF1 (Chip resistor 0603 RF pad)
footprint RC0603RF1R (Chip resistor 0603 RF pad ROUNDED PAD)
pins: 1, 2
1 alternate drawing of the same symbol

## RES0603-1-1.69K-1%100PPM
designator R?, comment 1k69
Chip Resistor 0603 100mW 1% 100ppm; Manufacturer: Panasonic; Manufacturer No: ERJ-3EKF1691V; Tech: SMDR; Package: Res Chip 0603; Supplier 1: Mouser; Supplier Part Number 1: 667-ERJ-3EKF1691V; Supplier 2: Newark; Supplier Part Number 2: 65T8350; Supplier 3: Digi-Key; Supplier Part Number 3: P1.69KHCT-ND
simulation model RESISTOR (Resistor)
signal-integrity model Res
footprint RC0603N1R (Chip resistor 0603 ROUNDED PAD)
footprint RC0603N1X (Chip resistor 0603)
footprint RC0603RF1 (Chip resistor 0603 RF pad)
footprint RC0603RF1R (Chip resistor 0603 RF pad ROUNDED PAD)
pins: 1, 2
1 alternate drawing of the same symbol

## RES0603-1-1.74K-1%100PPM
designator R?, comment 1k74
Chip Resistor 0603 100mW 1% 100ppm; Manufacturer: Yageo; Manufacturer No: RC0603FR-071K74L; Tech: SMDR; Package: Res Chip 0603; Supplier 1: Mouser; Supplier Part Number 1: 603-RC0603FR-071K74L; Supplier 2: Newark; Supplier Part Number 2: 66R1933; Supplier 3: Digi-Key; Supplier Part Number 3: 311-1.74KHRDKR-ND
simulation model RESISTOR (Resistor)
signal-integrity model Res
footprint RC0603N1R (Chip resistor 0603 ROUNDED PAD)
footprint RC0603N1X (Chip resistor 0603)
footprint RC0603RF1 (Chip resistor 0603 RF pad)
footprint RC0603RF1R (Chip resistor 0603 RF pad ROUNDED PAD)
pins: 1, 2
1 alternate drawing of the same symbol

## RES0603-1-2.00K-1%100PPM
designator R?, comment 2k
Chip Resistor 0603 100mW 1% 100ppm; Manufacturer: Panasonic; Manufacturer No: ERJ-3EKF2001V; Tech: SMDR; Package: Res Chip 0603; Supplier 1: Mouser; Supplier Part Number 1: 667-ERJ-3EKF2001V; Supplier 2: Digi-Key; Supplier Part Number 2: P2.00KHCT-ND; Supplier 3: Newark; Supplier Part Number 3: 65T8366
simulation model RESISTOR (Resistor)
signal-integrity model Res
footprint RC0603N1R (Chip resistor 0603 ROUNDED PAD)
footprint RC0603N1X (Chip resistor 0603)
footprint RC0603RF1 (Chip resistor 0603 RF pad)
footprint RC0603RF1R (Chip resistor 0603 RF pad ROUNDED PAD)
pins: 1, 2
1 alternate drawing of the same symbol

## RES0603-1-2.15K-1%100PPM
designator R?, comment 2k15
Chip Resistor 0603 100mW 1% 100ppm; Manufacturer: Panasonic; Manufacturer No: ERJ-3EKF2151V; Tech: SMDR; Package: Res Chip 0603; Supplier 1: Newark; Supplier Part Number 1: 97W7297; Supplier 2: Digi-Key; Supplier Part Number 2: P2.15KHCT-ND; Supplier 3: Mouser; Supplier Part Number 3: 667-ERJ-3EKF2151V
simulation model RESISTOR (Resistor)
signal-integrity model Res
footprint RC0603N1R (Chip resistor 0603 ROUNDED PAD)
footprint RC0603N1X (Chip resistor 0603)
footprint RC0603RF1 (Chip resistor 0603 RF pad)
footprint RC0603RF1R (Chip resistor 0603 RF pad ROUNDED PAD)
pins: 1, 2
1 alternate drawing of the same symbol

## RES0603-1-2.37K-1%100PPM
designator R?, comment 2k37
Chip Resistor 0603 100mW 1% 100ppm; Manufacturer: Panasonic; Manufacturer No: ERJ-3EKF2371V; Tech: SMDR; Package: Res Chip 0603; Supplier 1: Digi-Key; Supplier Part Number 1: P2.37KHCT-ND; Supplier 2: Newark; Supplier Part Number 2: 65T8386; Supplier 3: Mouser; Supplier Part Number 3: 667-ERJ-3EKF2371V
simulation model RESISTOR (Resistor)
signal-integrity model Res
footprint RC0603N1R (Chip resistor 0603 ROUNDED PAD)
footprint RC0603N1X (Chip resistor 0603)
footprint RC0603RF1 (Chip resistor 0603 RF pad)
footprint RC0603RF1R (Chip resistor 0603 RF pad ROUNDED PAD)
pins: 1, 2
1 alternate drawing of the same symbol

## RES0603-1-3.00K-1%100PPM
designator R?, comment 3k0
Chip Resistor 0603 100mW 1% 100ppm; Manufacturer: Panasonic; Manufacturer No: ERJ-3EKF3001V; Tech: SMDR; Package: Res Chip 0603; Supplier 1: Newark; Supplier Part Number 1: 97W7337; Supplier 2: Mouser; Supplier Part Number 2: 667-ERJ-3EKF3001V; Supplier 3: Digi-Key; Supplier Part Number 3: P3.00KHCT-ND
simulation model RESISTOR (Resistor)
signal-integrity model Res
footprint RC0603N1R (Chip resistor 0603 ROUNDED PAD)
footprint RC0603N1X (Chip resistor 0603)
footprint RC0603RF1 (Chip resistor 0603 RF pad)
footprint RC0603RF1R (Chip resistor 0603 RF pad ROUNDED PAD)
pins: 1, 2
1 alternate drawing of the same symbol

## RES0603-1-3.09K-1%100PPM
designator R?, comment 3k09
Chip Resistor 0603 100mW 1% 100ppm; Manufacturer: Yageo; Manufacturer No: RC0603FR-073K09L; Tech: SMDR; Package: Res Chip 0603; Supplier 1: Digi-Key; Supplier Part Number 1: 311-3.09KHRDKR-ND; Supplier 2: Newark; Supplier Part Number 2: 66R2252; Supplier 3: Mouser; Supplier Part Number 3: 603-RC0603FR-073K09L
simulation model RESISTOR (Resistor)
signal-integrity model Res
footprint RC0603N1R (Chip resistor 0603 ROUNDED PAD)
footprint RC0603N1X (Chip resistor 0603)
footprint RC0603RF1 (Chip resistor 0603 RF pad)
footprint RC0603RF1R (Chip resistor 0603 RF pad ROUNDED PAD)
pins: 1, 2
1 alternate drawing of the same symbol

## RES0603-1-3.32K-1%100PPM
designator R?, comment 3k32
Chip Resistor 0603 100mW 1% 100ppm; Manufacturer: Panasonic; Manufacturer No: ERJ-3EKF3321V; Tech: SMDR; Package: Res Chip 0603; Supplier 1: Digi-Key; Supplier Part Number 1: P3.32KHCT-ND; Supplier 2: Newark; Supplier Part Number 2: 97W7352; Supplier 3: Mouser; Supplier Part Number 3: 667-ERJ-3EKF3321V
simulation model RESISTOR (Resistor)
signal-integrity model Res
footprint RC0603N1R (Chip resistor 0603 ROUNDED PAD)
footprint RC0603N1X (Chip resistor 0603)
footprint RC0603RF1 (Chip resistor 0603 RF pad)
footprint RC0603RF1R (Chip resistor 0603 RF pad ROUNDED PAD)
pins: 1, 2
1 alternate drawing of the same symbol

## RES0603-1-3.40K-1%100PPM
designator R?, comment 3k40
Chip Resistor 0603 100mW 1% 100ppm; Manufacturer: Yageo; Manufacturer No: RC0603FR-073K4L; Tech: SMDR; Package: Res Chip 0603; Supplier 1: Mouser; Supplier Part Number 1: 603-RC0603FR-073K4L; Supplier 2: Newark; Supplier Part Number 2: 66R2257; Supplier 3: Digi-Key; Supplier Part Number 3: 311-3.40KHRCT-ND
simulation model RESISTOR (Resistor)
signal-integrity model Res
footprint RC0603N1R (Chip resistor 0603 ROUNDED PAD)
footprint RC0603N1X (Chip resistor 0603)
footprint RC0603RF1 (Chip resistor 0603 RF pad)
footprint RC0603RF1R (Chip resistor 0603 RF pad ROUNDED PAD)
pins: 1, 2
1 alternate drawing of the same symbol

## RES0603-1-3.60K-1%100PPM
designator R?, comment 3k6
Chip Resistor 0603 100mW 1% 100ppm; Manufacturer: Panasonic; Manufacturer No: ERJ-3EKF3601V; Tech: SMDR; Package: Res Chip 0603; Supplier 1: Newark; Supplier Part Number 1: 53W4605; Supplier 2: Digi-Key; Supplier Part Number 2: P3.60KHDKR-ND; Supplier 3: Mouser; Supplier Part Number 3: 667-ERJ-3EKF3601V
simulation model RESISTOR (Resistor)
signal-integrity model Res
footprint RC0603N1R (Chip resistor 0603 ROUNDED PAD)
footprint RC0603N1X (Chip resistor 0603)
footprint RC0603RF1 (Chip resistor 0603 RF pad)
footprint RC0603RF1R (Chip resistor 0603 RF pad ROUNDED PAD)
pins: 1, 2
1 alternate drawing of the same symbol

## RES0603-1-3.90K-1%100PPM
designator R?, comment 3k9
Chip Resistor 0603 100mW 1% 100ppm; Manufacturer: Panasonic; Manufacturer No: ERJ-3EKF3901V; Tech: SMDR; Package: Res Chip 0603; Supplier 1: Newark; Supplier Part Number 1: 64R5344; Supplier 2: Digi-Key; Supplier Part Number 2: P3.90KHDKR-ND; Supplier 3: Mouser; Supplier Part Number 3: 667-ERJ-3EKF3901V
simulation model RESISTOR (Resistor)
signal-integrity model Res
footprint RC0603N1R (Chip resistor 0603 ROUNDED PAD)
footprint RC0603N1X (Chip resistor 0603)
footprint RC0603RF1 (Chip resistor 0603 RF pad)
footprint RC0603RF1R (Chip resistor 0603 RF pad ROUNDED PAD)
pins: 1, 2
1 alternate drawing of the same symbol

## RES0603-1-4.02K-1%100PPM
designator R?, comment 4k02
Chip Resistor 0603 100mW 1% 100ppm; Manufacturer: Yageo; Manufacturer No: RC0603FR-074K02L; Tech: SMDR; Package: Res Chip 0603; Supplier 1: Digi-Key; Supplier Part Number 1: 311-4.02KHRDKR-ND; Supplier 2: Mouser; Supplier Part Number 2: 603-RC0603FR-074K02L
simulation model RESISTOR (Resistor)
signal-integrity model Res
footprint RC0603N1R (Chip resistor 0603 ROUNDED PAD)
footprint RC0603N1X (Chip resistor 0603)
footprint RC0603RF1 (Chip resistor 0603 RF pad)
footprint RC0603RF1R (Chip resistor 0603 RF pad ROUNDED PAD)
pins: 1, 2
1 alternate drawing of the same symbol

## RES0603-1-4.30K-1%100PPM
designator R?, comment 4k3
Chip Resistor 0603 100mW 1% 100ppm; Manufacturer: Yageo; Manufacturer No: RC0603FR-074K3L; Tech: SMDR; Package: Res Chip 0603; Supplier 1: Mouser; Supplier Part Number 1: 603-RC0603FR-074K3L; Supplier 2: Digi-Key; Supplier Part Number 2: 311-4.30KHRCT-ND
simulation model RESISTOR (Resistor)
signal-integrity model Res
footprint RC0603N1R (Chip resistor 0603 ROUNDED PAD)
footprint RC0603N1X (Chip resistor 0603)
footprint RC0603RF1 (Chip resistor 0603 RF pad)
footprint RC0603RF1R (Chip resistor 0603 RF pad ROUNDED PAD)
pins: 1, 2
1 alternate drawing of the same symbol

## RES0603-1-4.32K-1%100PPM
designator R?, comment 4k32
Chip Resistor 0603 100mW 1% 100ppm; Manufacturer: Yageo; Manufacturer No: RC0603FR-074K32L; Tech: SMDR; Package: Res Chip 0603; Supplier 1: Mouser; Supplier Part Number 1: 603-RC0603FR-074K32L; Supplier 2: Newark; Supplier Part Number 2: 66R2360; Supplier 3: Digi-Key; Supplier Part Number 3: 311-4.32KHRCT-ND
simulation model RESISTOR (Resistor)
signal-integrity model Res
footprint RC0603N1R (Chip resistor 0603 ROUNDED PAD)
footprint RC0603N1X (Chip resistor 0603)
footprint RC0603RF1 (Chip resistor 0603 RF pad)
footprint RC0603RF1R (Chip resistor 0603 RF pad ROUNDED PAD)
pins: 1, 2
1 alternate drawing of the same symbol

## RES0603-1-4.70K-1%100PPM
designator R?, comment 4k7
Chip Resistor 0603 100mW 1% 100ppm; Manufacturer: Panasonic; Manufacturer No: ERJ-3EKF4701V; Tech: SMDR; Package: Res Chip 0603; Supplier 1: Newark; Supplier Part Number 1: 64R5349; Supplier 2: Mouser; Supplier Part Number 2: 667-ERJ-3EKF4701V; Supplier 3: Digi-Key; Supplier Part Number 3: P4.70KHCT-ND
simulation model RESISTOR (Resistor)
signal-integrity model Res
footprint RC0603N1R (Chip resistor 0603 ROUNDED PAD)
footprint RC0603N1X (Chip resistor 0603)
footprint RC0603RF1 (Chip resistor 0603 RF pad)
footprint RC0603RF1R (Chip resistor 0603 RF pad ROUNDED PAD)
pins: 1, 2
1 alternate drawing of the same symbol

## RES0603-1-5.10K-1%100PPM
designator R?, comment 5k1
Chip Resistor 0603 100mW 1% 100ppm; Manufacturer: Stackpole; Manufacturer No: RMCF0603FT5K10; Tech: SMDR; Package: Res Chip 0603; Supplier 1: Newark; Supplier Part Number 1: 58K4618; Supplier 2: Mouser; Supplier Part Number 2: 71-CRCW0603-5.1K-E3; Supplier 3: Digi-Key; Supplier Part Number 3: 541-5.10KHCT-ND; Supplier 4: Digi-Key; Supplier Part Number 4: CRCW06035K10FKEB-ND
simulation model RESISTOR (Resistor)
signal-integrity model Res
footprint RC0603N1R (Chip resistor 0603 ROUNDED PAD)
footprint RC0603N1X (Chip resistor 0603)
footprint RC0603RF1 (Chip resistor 0603 RF pad)
footprint RC0603RF1R (Chip resistor 0603 RF pad ROUNDED PAD)
pins: 1, 2
1 alternate drawing of the same symbol

## RES0603-1-5.60K-1%100PPM
designator R?, comment 5k60
Chip Resistor 0603 100mW 1% 100ppm; Manufacturer: Yageo; Manufacturer No: RC0603FR-075K6L; Tech: SMDR; Package: Res Chip 0603; Supplier 1: Mouser; Supplier Part Number 1: 603-RC0603FR-075K6L; Supplier 2: Octopart; Supplier Part Number 2: Digi-Key - 311-5.60KHRDKR-ND; Supplier 3: Octopart; Supplier Part Number 3: Newark - 68R0102
simulation model RESISTOR (Resistor)
signal-integrity model Res
footprint RC0603N1R (Chip resistor 0603 ROUNDED PAD)
footprint RC0603N1X (Chip resistor 0603)
footprint RC0603RF1 (Chip resistor 0603 RF pad)
footprint RC0603RF1R (Chip resistor 0603 RF pad ROUNDED PAD)
pins: 1, 2
1 alternate drawing of the same symbol

## RES0603-1-5.62K-1%100PPM
designator R?, comment 5k62
Chip Resistor 0603 100mW 1% 100ppm; Manufacturer: Panasonic; Manufacturer No: ERJ-3EKF5621V; Tech: SMDR; Package: Res Chip 0603; Supplier 1: Digi-Key; Supplier Part Number 1: P5.62KHCT-ND; Supplier 2: Newark; Supplier Part Number 2: 97W7410; Supplier 3: Mouser; Supplier Part Number 3: 667-ERJ-3EKF5621V
simulation model RESISTOR (Resistor)
signal-integrity model Res
footprint RC0603N1R (Chip resistor 0603 ROUNDED PAD)
footprint RC0603N1X (Chip resistor 0603)
footprint RC0603RF1 (Chip resistor 0603 RF pad)
footprint RC0603RF1R (Chip resistor 0603 RF pad ROUNDED PAD)
pins: 1, 2
1 alternate drawing of the same symbol